# Altium footprint library smd_diodes_packages.PcbLib: 1 footprints
Each footprint in its own frame and in the unit in brackets; x right, y up, seen from the top. Pads: shape width x height; smd on the part's side, far side on the other; paste and mask are expansions set on the pad; w line width, h text height; cw(c..) or ccw(c..) is an arc to the next point about the centre after c.
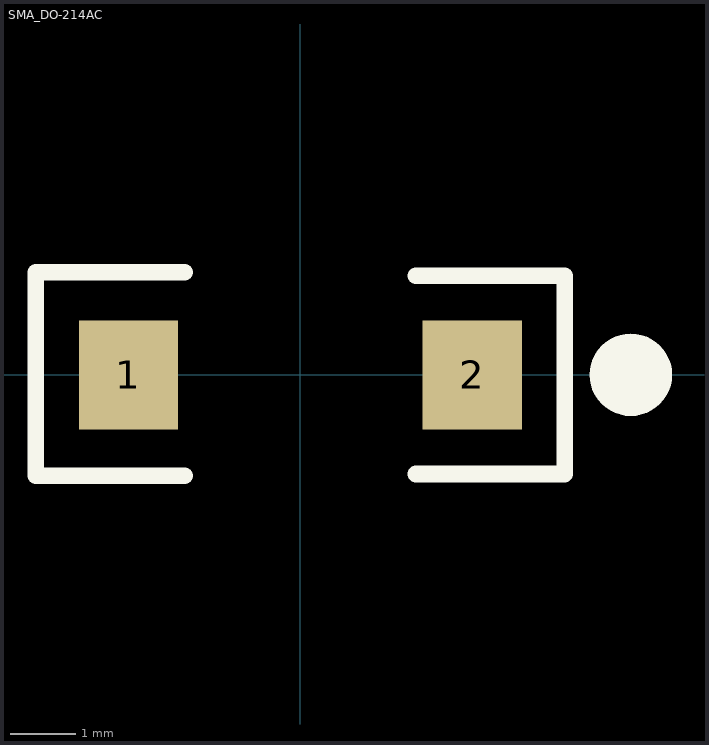
[diagram p0: the footprint, top view; thin cyan lines are the x and y axes]

## SMA_DO-214AC [mil] "This is a packaging that's usual for SMD diodes."
pads (3):
  rect 60x66 smd: 1(-104,0) 2(104,0)
  round 50 on Top Overlay: ""(200,0)
Top Overlay:
  lines w10: -70,-61 -160,-61 -160,62 -70,62 ; 70,-60 160,-60 160,-30 160,60 70,60
3D body "User Library-DO-214AC SMA.STEP": height 94.77, standoff 0.18, extent -102.36,-51.18 102.36,51.18